# EAGLE library part PCI-SLOT (library con-pc)
PCI SLOT
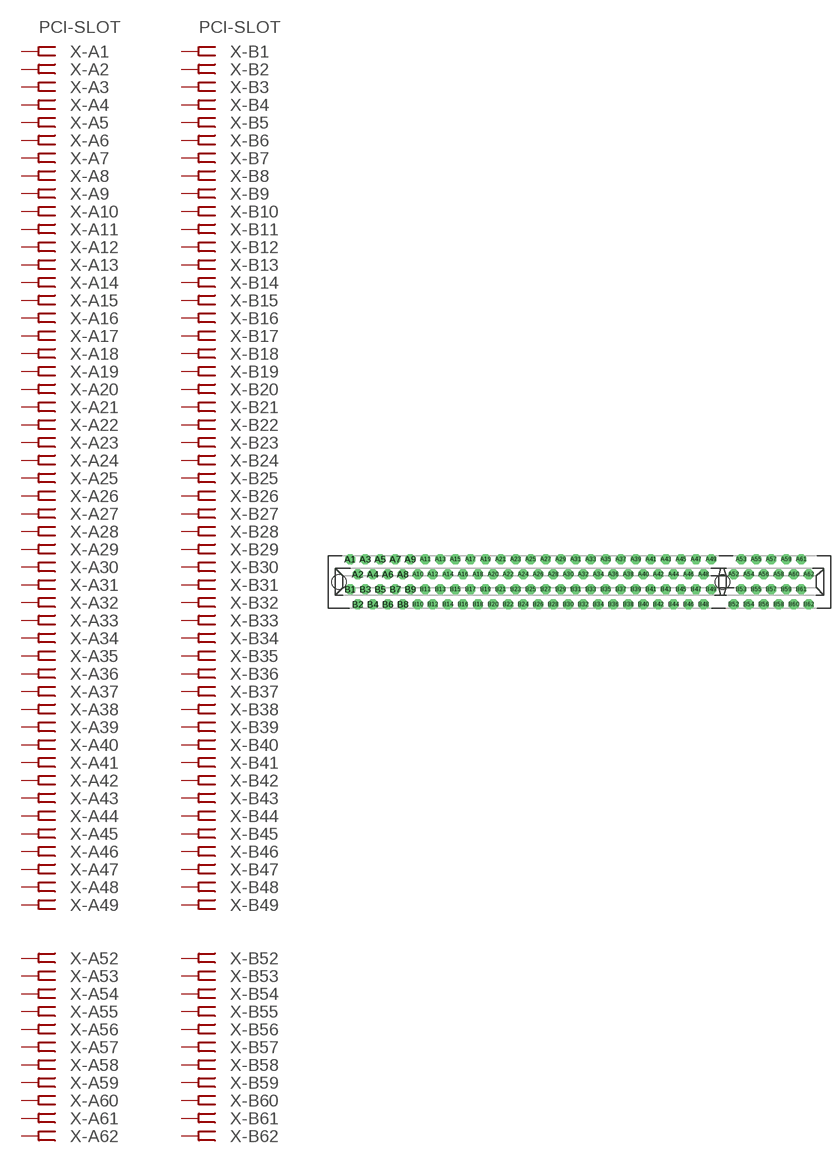
[diagram p6: symbol with the pads of CON-PCI; footprint CON-PCI]

Designator prefix X; gates -A1=FEMRVAL -A2=FEMREC -A3=FEMREC -A4=FEMREC -A5=FEMREC -A6=FEMREC -A7=FEMREC -A8=FEMREC -A9=FEMREC -A10=FEMREC -A11=FEMREC -A12=FEMREC -A13=FEMREC -A14=FEMREC -A15=FEMREC -A16=FEMREC -A17=FEMREC -A18=FEMREC -A19=FEMREC -A20=FEMREC -A21=FEMREC -A22=FEMREC -A23=FEMREC -A24=FEMREC -A25=FEMREC -A26=FEMREC -A27=FEMREC -A28=FEMREC -A29=FEMREC -A30=FEMREC -A31=FEMREC -A32=FEMREC -A33=FEMREC -A34=FEMREC -A35=FEMREC -A36=FEMREC -A37=FEMREC -A38=FEMREC -A39=FEMREC -A40=FEMREC -A41=FEMREC -A42=FEMREC -A43=FEMREC -A44=FEMREC -A45=FEMREC -A46=FEMREC -A47=FEMREC -A48=FEMREC -A49=FEMREC -A52=FEMREC -A53=FEMREC -A54=FEMREC -A55=FEMREC -A56=FEMREC -A57=FEMREC -A58=FEMREC -A59=FEMREC -A60=FEMREC -A61=FEMREC -A62=FEMREC -B1=FEMRVAL -B2=FEMREC -B3=FEMREC -B4=FEMREC -B5=FEMREC -B6=FEMREC -B7=FEMREC -B8=FEMREC -B9=FEMREC -B10=FEMREC -B11=FEMREC -B12=FEMREC -B13=FEMREC -B14=FEMREC -B15=FEMREC -B16=FEMREC -B17=FEMREC -B18=FEMREC -B19=FEMREC -B20=FEMREC -B21=FEMREC -B22=FEMREC -B23=FEMREC -B24=FEMREC -B25=FEMREC -B26=FEMREC -B27=FEMREC -B28=FEMREC -B29=FEMREC -B30=FEMREC -B31=FEMREC -B32=FEMREC -B33=FEMREC -B34=FEMREC -B35=FEMREC -B36=FEMREC -B37=FEMREC -B38=FEMREC -B39=FEMREC -B40=FEMREC -B41=FEMREC -B42=FEMREC -B43=FEMREC -B44=FEMREC -B45=FEMREC -B46=FEMREC -B47=FEMREC -B48=FEMREC -B49=FEMREC -B52=FEMREC -B53=FEMREC -B54=FEMREC -B55=FEMREC -B56=FEMREC -B57=FEMREC -B58=FEMREC -B59=FEMREC -B60=FEMREC -B61=FEMREC -B62=FEMREC

## PCI-SLOT  [CON-PCI]
A1  -A1:P  pas
A2  -A2:P  pas
A3  -A3:P  pas
A4  -A4:P  pas
A5  -A5:P  pas
A6  -A6:P  pas
A7  -A7:P  pas
A8  -A8:P  pas
A9  -A9:P  pas
A10  -A10:P  pas
A11  -A11:P  pas
A12  -A12:P  pas
A13  -A13:P  pas
A14  -A14:P  pas
A15  -A15:P  pas
A16  -A16:P  pas
A17  -A17:P  pas
A18  -A18:P  pas
A19  -A19:P  pas
A20  -A20:P  pas
A21  -A21:P  pas
A22  -A22:P  pas
A23  -A23:P  pas
A24  -A24:P  pas
A25  -A25:P  pas
A26  -A26:P  pas
A27  -A27:P  pas
A28  -A28:P  pas
A29  -A29:P  pas
A30  -A30:P  pas
A31  -A31:P  pas
A32  -A32:P  pas
A33  -A33:P  pas
A34  -A34:P  pas
A35  -A35:P  pas
A36  -A36:P  pas
A37  -A37:P  pas
A38  -A38:P  pas
A39  -A39:P  pas
A40  -A40:P  pas
A41  -A41:P  pas
A42  -A42:P  pas
A43  -A43:P  pas
A44  -A44:P  pas
A45  -A45:P  pas
A46  -A46:P  pas
A47  -A47:P  pas
A48  -A48:P  pas
A49  -A49:P  pas
A52  -A52:P  pas
A53  -A53:P  pas
A54  -A54:P  pas
A55  -A55:P  pas
A56  -A56:P  pas
A57  -A57:P  pas
A58  -A58:P  pas
A59  -A59:P  pas
A60  -A60:P  pas
A61  -A61:P  pas
A62  -A62:P  pas
B1  -B1:P  pas
B2  -B2:P  pas
B3  -B3:P  pas
B4  -B4:P  pas
B5  -B5:P  pas
B6  -B6:P  pas
B7  -B7:P  pas
B8  -B8:P  pas
B9  -B9:P  pas
B10  -B10:P  pas
B11  -B11:P  pas
B12  -B12:P  pas
B13  -B13:P  pas
B14  -B14:P  pas
B15  -B15:P  pas
B16  -B16:P  pas
B17  -B17:P  pas
B18  -B18:P  pas
B19  -B19:P  pas
B20  -B20:P  pas
B21  -B21:P  pas
B22  -B22:P  pas
B23  -B23:P  pas
B24  -B24:P  pas
B25  -B25:P  pas
B26  -B26:P  pas
B27  -B27:P  pas
B28  -B28:P  pas
B29  -B29:P  pas
B30  -B30:P  pas
B31  -B31:P  pas
B32  -B32:P  pas
B33  -B33:P  pas
B34  -B34:P  pas
B35  -B35:P  pas
B36  -B36:P  pas
B37  -B37:P  pas
B38  -B38:P  pas
B39  -B39:P  pas
B40  -B40:P  pas
B41  -B41:P  pas
B42  -B42:P  pas
B43  -B43:P  pas
B44  -B44:P  pas
B45  -B45:P  pas
B46  -B46:P  pas
B47  -B47:P  pas
B48  -B48:P  pas
B49  -B49:P  pas
B52  -B52:P  pas
B53  -B53:P  pas
B54  -B54:P  pas
B55  -B55:P  pas
B56  -B56:P  pas
B57  -B57:P  pas
B58  -B58:P  pas
B59  -B59:P  pas
B60  -B60:P  pas
B61  -B61:P  pas
B62  -B62:P  pas

## Footprint CON-PCI (pad centres in mm)
PCI SLOT
drill 1.016 pad 1.676 octagon: A1 -38.735,3.81; A2 -37.465,1.27; A3 -36.195,3.81; A4 -34.925,1.27; A5 -33.655,3.81; A6 -32.385,1.27; A7 -31.115,3.81; A8 -29.845,1.27; A9 -28.575,3.81; A10 -27.305,1.27; A11 -26.035,3.81; A12 -24.765,1.27; A13 -23.495,3.81; A14 -22.225,1.27; A15 -20.955,3.81; A16 -19.685,1.27; A17 -18.415,3.81; A18 -17.145,1.27; A19 -15.875,3.81; A20 -14.605,1.27; A21 -13.335,3.81; A22 -12.065,1.27; A23 -10.795,3.81; A24 -9.525,1.27; A25 -8.255,3.81; A26 -6.985,1.27; A27 -5.715,3.81; A28 -4.445,1.27; A29 -3.175,3.81; A30 -1.905,1.27; A31 -0.635,3.81; A32 0.635,1.27; A33 1.905,3.81; A34 3.175,1.27; A35 4.445,3.81; A36 5.715,1.27; A37 6.985,3.81; A38 8.255,1.27; A39 9.525,3.81; A40 10.795,1.27; A41 12.065,3.81; A42 13.335,1.27; A43 14.605,3.81; A44 15.875,1.27; A45 17.145,3.81; A46 18.415,1.27; A47 19.685,3.81; A48 20.955,1.27; A49 22.225,3.81; A52 26.035,1.27; A53 27.305,3.81; A54 28.575,1.27; A55 29.845,3.81; A56 31.115,1.27; A57 32.385,3.81; A58 33.655,1.27; A59 34.925,3.81; A60 36.195,1.27; A61 37.465,3.81; A62 38.735,1.27; B1 -38.735,-1.27; B2 -37.465,-3.81; B3 -36.195,-1.27; B4 -34.925,-3.81; B5 -33.655,-1.27; B6 -32.385,-3.81; B7 -31.115,-1.27; B8 -29.845,-3.81; B9 -28.575,-1.27; B10 -27.305,-3.81; B11 -26.035,-1.27; B12 -24.765,-3.81; B13 -23.495,-1.27; B14 -22.225,-3.81; B15 -20.955,-1.27; B16 -19.685,-3.81; B17 -18.415,-1.27; B18 -17.145,-3.81; B19 -15.875,-1.27; B20 -14.605,-3.81; B21 -13.335,-1.27; B22 -12.065,-3.81; B23 -10.795,-1.27; B24 -9.525,-3.81; B25 -8.255,-1.27; B26 -6.985,-3.81; B27 -5.715,-1.27; B28 -4.445,-3.81; B29 -3.175,-1.27; B30 -1.905,-3.81; B31 -0.635,-1.27; B32 0.635,-3.81; B33 1.905,-1.27; B34 3.175,-3.81; B35 4.445,-1.27; B36 5.715,-3.81; B37 6.985,-1.27; B38 8.255,-3.81; B39 9.525,-1.27; B40 10.795,-3.81; B41 12.065,-1.27; B42 13.335,-3.81; B43 14.605,-1.27; B44 15.875,-3.81; B45 17.145,-1.27; B46 18.415,-3.81; B47 19.685,-1.27; B48 20.955,-3.81; B49 22.225,-1.27; B52 26.035,-3.81; B53 27.305,-1.27; B54 28.575,-3.81; B55 29.845,-1.27; B56 31.115,-3.81; B57 32.385,-1.27; B58 33.655,-3.81; B59 34.925,-1.27; B60 36.195,-3.81; B61 37.465,-1.27; B62 38.735,-3.81
hole 2.438 at 24.13,0
hole 2.438 at -40.64,0